# EAGLE library part 74LVC1G139 (library wheat)
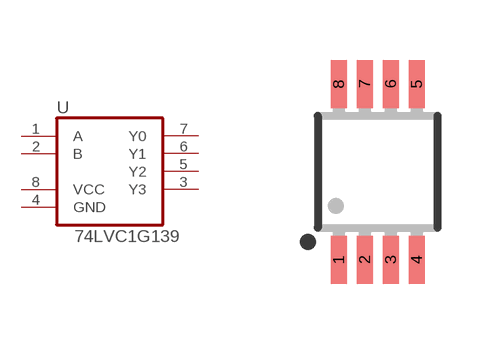
[diagram p279: symbol with the pads of VSSOP8; footprint VSSOP8]

Designator prefix U

## 74LVC1G139  [VSSOP8]
1  A  in
2  B  in
3  Y3  out
4  GND
5  Y2  out
6  Y1  out
7  Y0  out
8  VCC

## Footprint VSSOP8 (pad centres in mm)
smd 0.4 x 1.2: 1 -0.975,-2.2; 2 -0.325,-2.2; 3 0.325,-2.2; 4 0.975,-2.2; 5 0.975,2.2; 6 0.325,2.2; 7 -0.325,2.2; 8 -0.975,2.2